# EAGLE library part PSA08-11SRWA (library PSA08-11SRWA)
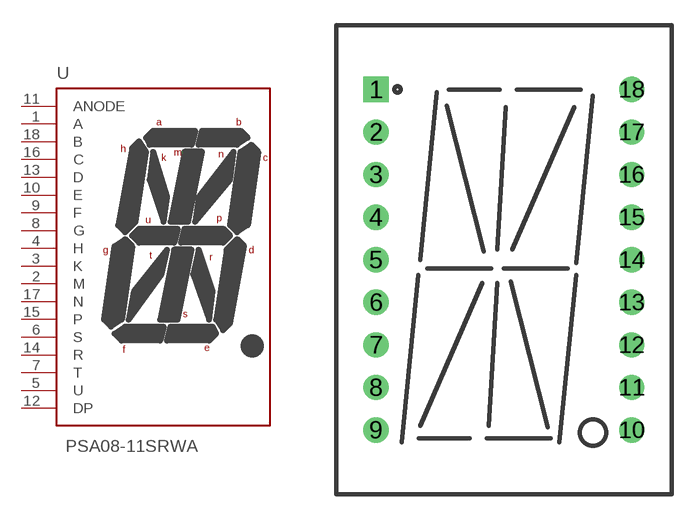
[diagram p0: symbol with the pads of PSA08-11SRWA; footprint PSA08-11SRWA]

Designator prefix -

## PSA08-11SRWA  [PSA08-11SRWA]
1  A
2  M
3  K
4  H
5  U
6  S
7  T
8  G
9  F
10  E
11  ANODE
12  DP
13  D
14  R
15  P
16  C
17  N
18  B

## Footprint PSA08-11SRWA (pad centres in mm)
drill 1 square: 1 -7.62,10.16
drill 1: 2 -7.62,7.62; 3 -7.62,5.08; 4 -7.62,2.54; 5 -7.62,0; 6 -7.62,-2.54; 7 -7.62,-5.08; 8 -7.62,-7.62; 9 -7.62,-10.16; 10 7.62,-10.16; 11 7.62,-7.62; 12 7.62,-5.08; 13 7.62,-2.54; 14 7.62,0; 15 7.62,2.54; 16 7.62,5.08; 17 7.62,7.62; 18 7.62,10.16